# Altium footprint library ASM2464PD.PcbLib: 48 footprints (part 2 of 3)
Each footprint in its own frame and in the unit in brackets; x right, y up, seen from the top. Pads: shape width x height; smd on the part's side, far side on the other; paste and mask are expansions set on the pad; w line width, h text height; cw(c..) or ccw(c..) is an arc to the next point about the centre after c.
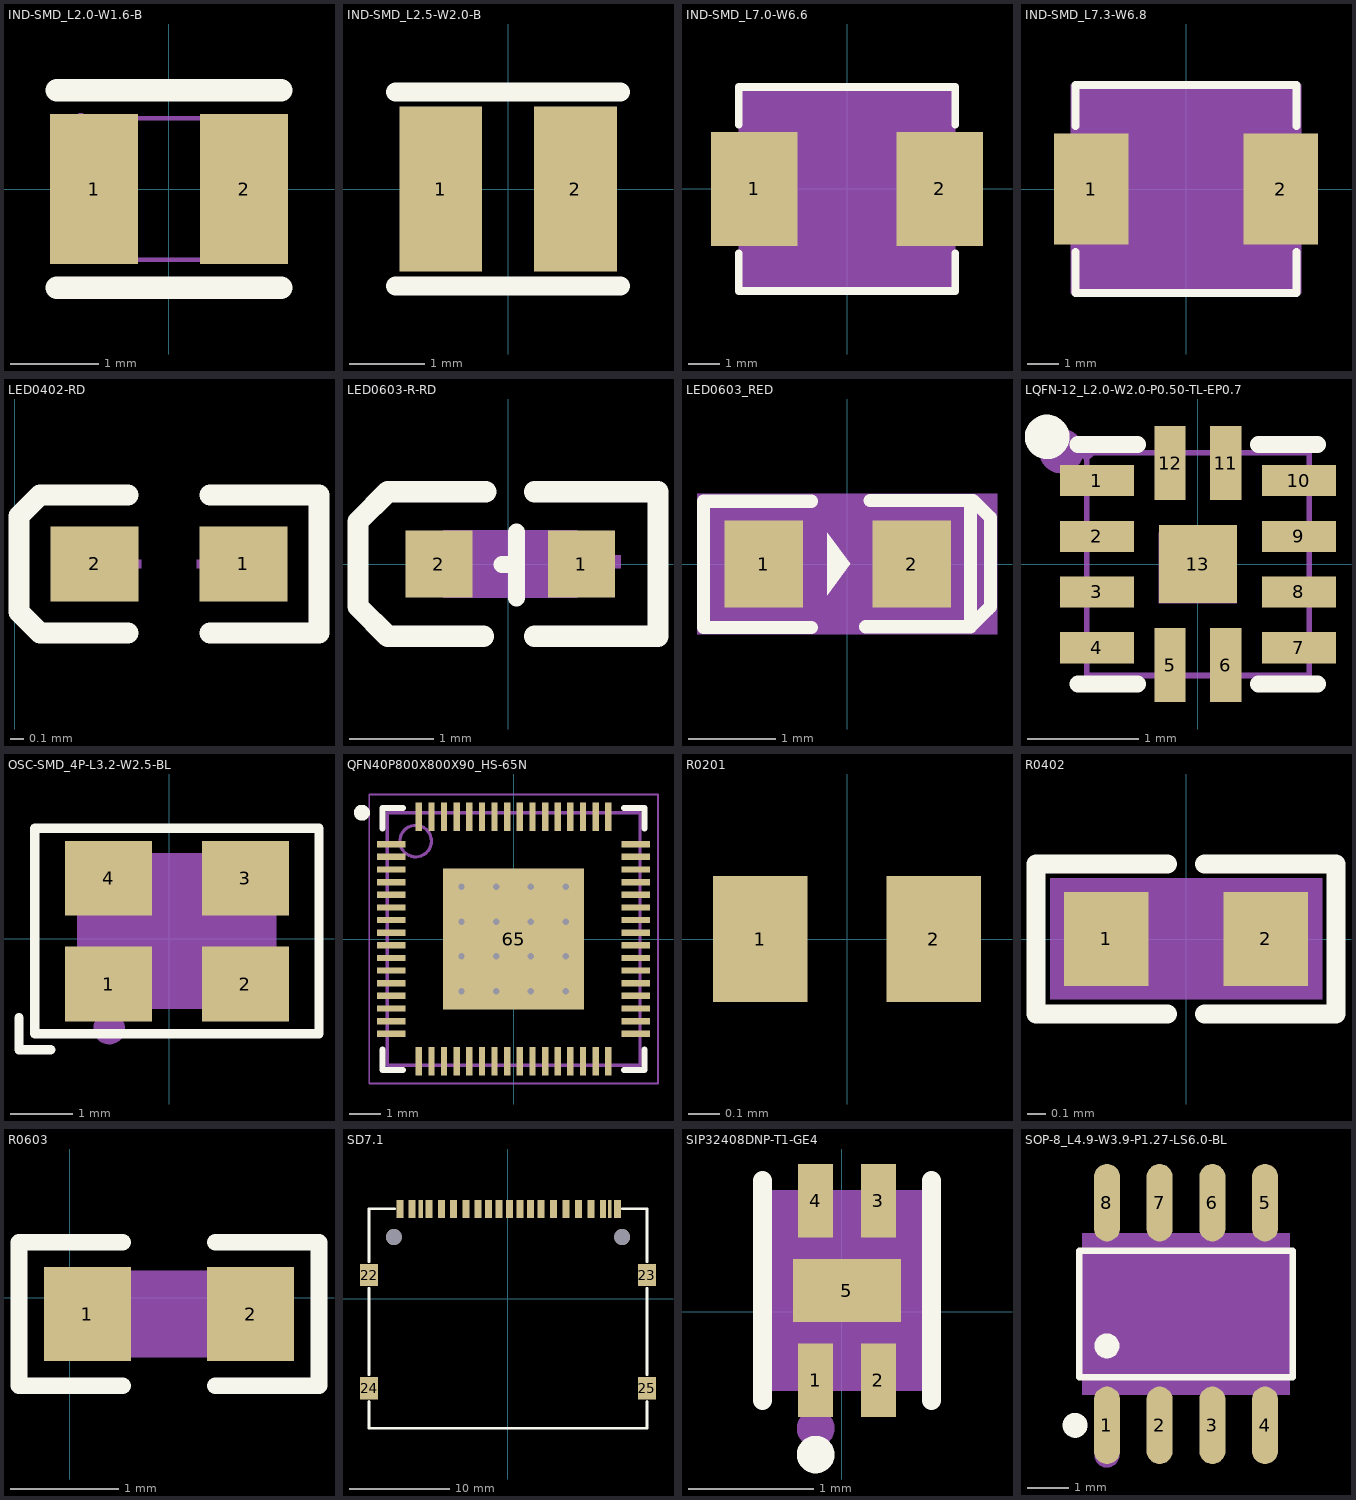
[diagram p1: the footprints below, top view; thin cyan lines are the x and y axes]

## IND-SMD_L2.0-W1.6-B [mm]
pads (2):
  rect 1x1.7 smd: 1(-0.85,0) 2(0.85,0)
Top Overlay:
  lines w0.254: -1.27,-1.12 1.27,-1.12 ; -1.27,1.12 1.27,1.12
Mechanical 15:
  region: -0.94,0.8 -0.94,0.825 -0.975,0.86 -1.025,0.86 -1.06,0.825 -1.06,0.8 -1.06,0.775 -1.025,0.74 -0.975,0.74 -0.94,0.775 -0.94,0.8
  region: 0.4,0.8 1,0.8 1,-0.8 0.4,-0.8
  region: -1,0.8 -0.4,0.8 -0.4,-0.8 -1,-0.8
  lines w0.051: -1,-0.8 -1,0.8 1,0.8 1,-0.8 -1,-0.8

## IND-SMD_L2.5-W2.0-B [mm]
pads (2):
  rect 1.1x2.2 smd: 1(-0.901,0) 2(0.899,0)
Top Overlay:
  lines w0.254: -1.5,-1.295 1.5,-1.295 ; -1.5,1.295 1.5,1.295
3D body "DFN160P250X100-2N.step": height 1, standoff 0, extent -1.25,-1 1.25,1

## IND-SMD_L7.0-W6.6 [mm]
pads (2):
  rect 2.8x3.7 smd: 1(-3,0) 2(3,0)
Top Overlay:
  lines w0.254: -3.5,-2.081 -3.5,-3.3 -3.49,-3.3 3.5,-3.3 3.5,-2.081 ; -3.5,2.081 -3.5,3.3 3.48,3.3 3.5,3.28 ; 3.5,2.081 3.5,3.3
Mechanical 4:
  region: -3.5,-3.3 -3.5,3.3 3.5,3.3 3.5,-3.3
Mechanical 5:
  region: 1.9,1.5 3.5,1.5 3.5,-1.5 1.9,-1.5
  region: -1.9,-1.5 -3.5,-1.5 -3.5,1.5 -1.9,1.5

## IND-SMD_L7.3-W6.8 [mm]
pads (2):
  rect 2.35x3.5 smd: 1(-3,0) 2(3,0)
Top Overlay:
  lines w0.254: -3.5,-2 -3.5,-3.3 3.5,-3.3 3.5,-2 ; -3.5,2 -3.5,3.3 3.5,3.3 3.5,2
Mechanical 4:
  region: -3.65,-3.3 -3.65,3.3 3.65,3.3 3.65,-3.3
Mechanical 5:
  region: 2.2,1.45 3.8,1.45 3.8,-1.45 2.2,-1.45
  region: -3.8,1.45 -2.2,1.45 -2.2,-1.45 -3.8,-1.45

## LED0402-RD [mm]
pads (2):
  rect 0.636x0.54 smd: 1(1.656,-6.759) 2(0.579,-6.759)
Top Overlay:
  lines w0.152: 0.821,-7.258 0.185,-7.258 0.032,-7.105 0.032,-6.413 0.185,-6.26 0.821,-6.26 ; 1.414,-7.258 2.202,-7.258 2.202,-6.26 1.414,-6.26
Top Paste:
  region: 0.919,-6.989 0.919,-6.529 0.879,-6.489 0.301,-6.489 0.261,-6.529 0.261,-6.989 0.301,-7.029 0.879,-7.029
  region: 1.315,-6.989 1.315,-6.529 1.355,-6.489 1.934,-6.489 1.974,-6.529 1.974,-6.989 1.934,-7.029 1.355,-7.029
Mechanical 15:
  region: 1.467,-6.959 1.467,-6.559 1.407,-6.559 1.407,-6.959
  region: 1.557,-6.789 1.557,-6.729 1.317,-6.729 1.317,-6.789
  region: 0.677,-6.789 0.677,-6.729 0.917,-6.729 0.917,-6.789
3D body "QBLP595.step": height 0.5, standoff 0, extent 0.639,-7.009 1.639,-6.509

## LED0603-R-RD [mm]
pads (2):
  rect 0.8x0.8 smd: 1(0.876,0) 2(-0.826,0)
Top Overlay:
  lines w0.203: -0.074,-0.008 0.102,-0.008 ; 0.102,-0.406 0.102,0.381
  lines w0.254: -0.292,-0.864 -1.435,-0.864 -1.791,-0.508 -1.791,0.508 -1.435,0.864 -0.267,0.864 ; 0.318,-0.864 1.791,-0.864 1.791,0.864 0.318,0.864
Mechanical 4:
  region: -0.775,0.4 0.825,0.4 0.825,-0.4 -0.775,-0.4
Mechanical 5:
  region: 0.825,0.4 0.825,-0.4 0.525,-0.4 0.525,0.4
  region: -0.775,-0.4 -0.775,0.4 -0.475,0.4 -0.475,-0.4
Mechanical 15:
  region: 0.686,0.102 1.346,0.102 1.346,-0.051 0.686,-0.051
  region: 0.961,-0.275 0.961,0.385 1.113,0.385 1.113,-0.275
  region: -1.168,0.05 -0.508,0.05 -0.508,-0.103 -1.168,-0.103

## LED0603_RED [mm]
pads (2):
  rect 0.9x1 smd: 1(-0.955,0) 2(0.745,0)
Top Overlay:
  region: -0.225,0.36 -0.225,-0.36 0.035,0
  lines w0.15: -0.405,-0.73 -1.645,-0.73 -1.645,0.72 -0.405,0.72 ; 0.215,-0.72 1.415,-0.72 ; 0.265,0.73 1.415,0.73 ; 1.415,-0.72 1.615,-0.52 1.645,-0.49 1.645,0.53 1.445,0.73 1.415,0.73 ; 1.415,-0.72 1.415,0.73
Mechanical 4:
  region: -1.72,0.805 1.72,0.805 1.72,-0.805 -1.72,-0.805
Mechanical 5:
  region: -0.505,0.5 -0.505,-0.5 -1.405,-0.5 -1.405,0.5
  region: 1.195,0.5 1.195,-0.5 0.295,-0.5 0.295,0.5

## LQFN-12_L2.0-W2.0-P0.50-TL-EP0.7 [mm]
pads (13):
  rect 0.665x0.28 smd paste-100 mask+0.051: 1(-0.908,0.75) 2(-0.908,0.25) 3(-0.908,-0.25) 4(-0.908,-0.75) 7(0.908,-0.75) 8(0.908,-0.25) 9(0.908,0.25) 10(0.908,0.75)
  rect 0.28x0.665 smd paste-100 mask+0.051: 5(-0.25,-0.908) 6(0.25,-0.908) 11(0.25,0.908) 12(-0.25,0.908)
  rect 0.7x0.7 smd paste-100 mask+0.051: 13(0,0)
Top Overlay:
  circle w0.2: c-1.354,1.143 r0.1
  lines w0.152: -1.076,-1.076 -0.542,-1.076 ; -1.076,1.076 -0.542,1.076 ; 0.542,-1.076 1.076,-1.076 ; 0.542,1.076 1.076,1.076
Top Paste:
  region: -0.39,0.575 -0.11,0.575 -0.11,1.24 -0.39,1.24
  region: 0.11,0.575 0.39,0.575 0.39,1.24 0.11,1.24
  region: 0.575,0.61 1.24,0.61 1.24,0.89 0.575,0.89
  region: 0.575,0.11 1.24,0.11 1.24,0.39 0.575,0.39
  region: 0.575,-0.39 1.24,-0.39 1.24,-0.11 0.575,-0.11
  region: 0.575,-0.89 1.24,-0.89 1.24,-0.61 0.575,-0.61
  region: 0.11,-1.24 0.39,-1.24 0.39,-0.575 0.11,-0.575
  region: -0.39,-1.24 -0.11,-1.24 -0.11,-0.575 -0.39,-0.575
  region: -1.24,-0.89 -0.575,-0.89 -0.575,-0.61 -1.24,-0.61
  region: -1.24,-0.39 -0.575,-0.39 -0.575,-0.11 -1.24,-0.11
  region: -1.24,0.11 -0.575,0.11 -0.575,0.39 -1.24,0.39
  region: -1.24,0.61 -0.575,0.61 -0.575,0.89 -1.24,0.89
  region: -0.25,-0.25 -0.25,0.25 0.25,0.25 0.25,-0.25
Mechanical 6:
  circle w0.2: c-1.227,1.016 r0.1
Mechanical 15:
  region: -0.94,1 -0.941,1.024 -0.976,1.058 -1.024,1.058 -1.059,1.024 -1.06,1 -1.059,0.976 -1.024,0.942 -0.976,0.942 -0.941,0.976 -0.94,1
  region: -0.28,0.35 0.35,0.35 0.35,-0.35 -0.35,-0.35 -0.35,0.28
  region: -0.375,1 -0.125,1 -0.125,0.6 -0.375,0.6
  region: 0.125,1 0.375,1 0.375,0.6 0.125,0.6
  region: 1,0.625 0.6,0.625 0.6,0.875 1,0.875
  region: 1,0.125 0.6,0.125 0.6,0.375 1,0.375
  region: 1,-0.375 0.6,-0.375 0.6,-0.125 1,-0.125
  region: 1,-0.875 0.6,-0.875 0.6,-0.625 1,-0.625
  region: 0.125,-1 0.375,-1 0.375,-0.6 0.125,-0.6
  region: -0.375,-1 -0.125,-1 -0.125,-0.6 -0.375,-0.6
  region: -1,-0.875 -0.6,-0.875 -0.6,-0.625 -1,-0.625
  region: -1,-0.375 -0.6,-0.375 -0.6,-0.125 -1,-0.125
  region: -1,0.125 -0.6,0.125 -0.6,0.375 -1,0.375
  region: -1,0.625 -0.6,0.625 -0.6,0.875 -1,0.875
  lines w0.051: -1,-1 1,-1 1,1 -1,1 -1,-1

## OSC-SMD_4P-L3.2-W2.5-BL [mm]
pads (4):
  rect 1.4x1.2 smd: 1(-0.973,-0.724) 2(1.227,-0.724) 3(1.227,0.978) 4(-0.973,0.978)
Top Overlay:
  lines w0.152: -2.413,-1.27 -2.413,-1.778 -1.905,-1.778 ; -2.159,-1.524 -2.159,1.778 2.413,1.778 2.413,0.127 2.413,-1.524 -2.159,-1.524
Mechanical 4:
  region: -1.473,-1.123 -1.473,1.377 1.727,1.377 1.727,-1.123
Mechanical 5:
  region: 0.727,-0.223 1.627,-0.223 1.627,-1.023 0.727,-1.023
  region: -1.373,-0.223 -0.473,-0.223 -0.473,-1.023 -1.373,-1.023
  region: -1.373,1.277 -0.473,1.277 -0.473,0.477 -1.373,0.477
  region: 0.727,1.277 1.627,1.277 1.627,0.477 0.727,0.477
Mechanical 15:
  circle w0.254: c-0.961,-1.44 r0.127
  region: -1.611,-0.409 -1.575,-0.409 -1.575,-0.481 -1.611,-0.481
  region: -1.575,-0.409 -1.539,-0.409 -1.539,-0.481 -1.575,-0.481
  region: -1.539,-0.373 -1.503,-0.373 -1.503,-0.481 -1.539,-0.481
  region: -1.503,-0.337 -1.467,-0.337 -1.467,-0.445 -1.503,-0.445
  region: -1.467,-0.337 -1.431,-0.337 -1.431,-0.877 -1.467,-0.877
  region: -1.431,-0.301 -1.395,-0.301 -1.395,-0.877 -1.431,-0.877
  region: -1.395,-0.301 -1.359,-0.301 -1.359,-0.877 -1.395,-0.877
  region: -1.359,-0.301 -1.323,-0.301 -1.323,-0.877 -1.359,-0.877

## QFN40P800X800X90_HS-65N [mm] "QFN, 64-Leads, Body 8.00x8.00mm, Pitch 0.40mm, Thermal Pad 4.46x4.46mm, IPC Medium Density"
height 0.9
pads (65):
  rect 0.9x0.2 smd: 1(-3.875,3) 2(-3.875,2.6) 3(-3.875,2.2) 4(-3.875,1.8) 5(-3.875,1.4) 6(-3.875,1) 7(-3.875,0.6) 8(-3.875,0.2) 9(-3.875,-0.2) 10(-3.875,-0.6) 11(-3.875,-1) 12(-3.875,-1.4) 13(-3.875,-1.8) 14(-3.875,-2.2) 15(-3.875,-2.6) 16(-3.875,-3) 33(3.875,-3) 34(3.875,-2.6) 35(3.875,-2.2) 36(3.875,-1.8) 37(3.875,-1.4) 38(3.875,-1) 39(3.875,-0.6) 40(3.875,-0.2) 41(3.875,0.2) 42(3.875,0.6) 43(3.875,1) 44(3.875,1.4) 45(3.875,1.8) 46(3.875,2.2) 47(3.875,2.6) 48(3.875,3)
  rect 0.2x0.9 smd: 17(-3,-3.875) 18(-2.6,-3.875) 19(-2.2,-3.875) 20(-1.8,-3.875) 21(-1.4,-3.875) 22(-1,-3.875) 23(-0.6,-3.875) 24(-0.2,-3.875) 25(0.2,-3.875) 26(0.6,-3.875) 27(1,-3.875) 28(1.4,-3.875) 29(1.8,-3.875) 30(2.2,-3.875) 31(2.6,-3.875) 32(3,-3.875) 49(3,3.875) 50(2.6,3.875) 51(2.2,3.875) 52(1.8,3.875) 53(1.4,3.875) 54(1,3.875) 55(0.6,3.875) 56(0.2,3.875) 57(-0.2,3.875) 58(-0.6,3.875) 59(-1,3.875) 60(-1.4,3.875) 61(-1.8,3.875) 62(-2.2,3.875) 63(-2.6,3.875) 64(-3,3.875)
  rect 4.46x4.46 smd: 65(0,0)
via 1.65,-1.65 diameter 0.5 hole 0.2
via 0.55,-1.65 diameter 0.5 hole 0.2
via -0.55,-1.65 diameter 0.5 hole 0.2
via -1.65,-1.65 diameter 0.5 hole 0.2
via 1.65,-0.55 diameter 0.5 hole 0.2
via 0.55,-0.55 diameter 0.5 hole 0.2
via -0.55,-0.55 diameter 0.5 hole 0.2
via -1.65,-0.55 diameter 0.5 hole 0.2
via 1.65,0.55 diameter 0.5 hole 0.2
via 0.55,0.55 diameter 0.5 hole 0.2
via -0.55,0.55 diameter 0.5 hole 0.2
via -1.65,0.55 diameter 0.5 hole 0.2
via 1.65,1.65 diameter 0.5 hole 0.2
via 0.55,1.65 diameter 0.5 hole 0.2
via -0.55,1.65 diameter 0.5 hole 0.2
via -1.65,1.65 diameter 0.5 hole 0.2
Top Overlay:
  circle w0.25: c-4.8,4 r0.125
  lines w0.2: -4.15,-3.5 -4.15,-4.15 -3.5,-4.15 ; -4.15,3.5 -4.15,4.15 -3.5,4.15 ; 3.5,-4.15 4.15,-4.15 4.15,-3.5 ; 3.5,4.15 4.15,4.15 4.15,3.5
Mechanical 13:
  circle w0.1: c-3.1,3.1 r0.5
  lines w0.1: -4,-4 4,-4 4,4 -4,4 -4,-4
Mechanical 15:
  lines w0.05: -4.575,-4.575 4.575,-4.575 4.575,4.575 -4.575,4.575 -4.575,-4.575
  lines w0.1: -0.5,0 0.5,0 ; 0,-0.5 0,0.5
3D body "QFN40P800X800X90_HS-65N.step": height 0.9, standoff 0, extent -4.001,-4.001 4.001,4.001

## R0201 [mm]
pads (2):
  rect 0.3x0.4 smd: 1(-0.275,0) 2(0.275,0)
3D body "RESC0603X02N.step": height 0.23, standoff 0, extent -0.3,-0.15 0.3,0.15

## R0402 [mm]
pads (2):
  rect 0.45x0.5 smd mask+0.076: 1(-0.425,0) 2(0.425,0)
Top Overlay:
  lines w0.102: -0.1,-0.4 -0.8,-0.4 -0.8,0.4 -0.1,0.4 ; 0.1,-0.4 0.8,-0.4 0.8,0.4 0.1,0.4
Mechanical 7:
  pour cut-out: -0.724,0.323 0.725,0.324 0.725,-0.321 -0.724,-0.321
3D body: height 0.5, standoff 0, extent -0.5,-0.25 -0.3,0.25
3D body: height 0.5, standoff 0, extent -0.3,-0.25 0.3,0.25
3D body: height 0.5, standoff 0, extent 0.3,-0.25 0.5,0.25

## R0603 [mm]
pads (2):
  rect 0.806x0.864 smd: 1(0.162,-0.149) 2(1.668,-0.149)
Top Overlay:
  lines w0.152: 0.489,-0.81 -0.47,-0.81 -0.47,0.512 0.489,0.512 ; 1.341,-0.81 2.3,-0.81 2.3,0.512 1.341,0.512
Top Paste:
  region: 2.11,0.301 1.31,0.301 1.26,0.251 1.26,0.023 1.63,0.023 1.63,-0.307 1.26,-0.307 1.26,-0.549 1.31,-0.599 2.11,-0.599 2.16,-0.549 2.16,0.251
  region: 0.56,0.251 0.56,0.023 0.18,0.023 0.18,-0.307 0.56,-0.307 0.56,-0.549 0.51,-0.599 -0.28,-0.599 -0.33,-0.549 -0.33,0.251 -0.28,0.301 0.51,0.301
Mechanical 4:
  region: 0.115,-0.549 0.115,0.251 1.715,0.251 1.715,-0.549
Mechanical 5:
  region: 0.115,-0.549 0.115,0.251 0.415,0.251 0.415,-0.549
  region: 1.715,-0.549 1.715,0.251 1.415,0.251 1.415,-0.549

## SD7.1 [mm]
pads (27):
  rect 0.7x1.8 smd: 1(10.91,8.95) 4(8.3,8.95) 5(7.05,8.95) 6(5.8,8.95) 7(4.55,8.95) 8(3.3,8.95) 9(2.25,8.95) 10(1.2,8.95) 11(0.15,8.95) 12(-0.9,8.95) 13(-1.95,8.95) 14(-3,8.95) 15(-4.2,8.95) 16(-5.45,8.95) 17(-6.65,8.95) 18(-7.88,8.95) 20(-9.58,8.95) 21(-10.78,8.95)
  rect 0.35x1.8 smd: 2(10.18,8.95)
  rect 0.61x1.8 smd: 3(9.5,8.95)
  rect 0.48x1.8 smd: 19(-8.72,8.95)
  rect 1.8x2.2 smd: 22(-13.875,2.35) 23(13.875,2.35) 24(-13.875,-8.95) 25(13.875,-8.95)
  round 1.6 hole 1.6 unplated: ""(-11.4,6.15) ""(11.4,6.15)
Top Overlay:
  lines w0.254: -13.875,-10.272 -13.875,-12.922 13.875,-12.922 13.875,-10.272 ; -13.875,-7.62 -13.875,1.016 ; -13.875,3.683 -13.875,8.95 -11.303,8.95 ; 11.43,8.95 13.875,8.95 13.875,3.683 ; 13.875,-7.605 13.875,1.031

## SIP32408DNP-T1-GE4 [mm]
pads (5):
  rect 0.28x0.585 smd: 1(-0.207,-0.549) 2(0.293,-0.549) 3(0.293,0.886) 4(-0.207,0.886)
  rect 0.86x0.5 smd: 5(0.043,0.169)
Top Overlay:
  circle w0.15: c-0.207,-1.141 r0.075
  lines w0.152: -0.634,-0.707 -0.634,1.045 ; 0.719,-0.707 0.719,1.045
Mechanical 4:
  region: -0.557,-0.631 -0.557,0.969 0.643,0.969 0.643,-0.631
Mechanical 5:
  region: -0.387,-0.031 -0.387,0.419 0.473,0.419 0.473,-0.081 -0.337,-0.081
  region: -0.332,0.969 -0.332,0.619 -0.082,0.619 -0.082,0.969
  region: 0.168,0.969 0.168,0.619 0.418,0.619 0.418,0.969
  region: 0.168,-0.631 0.168,-0.281 0.418,-0.281 0.418,-0.631
  region: -0.332,-0.631 -0.332,-0.281 -0.082,-0.281 -0.082,-0.631
Mechanical 15:
  circle w0.15: c-0.207,-0.931 r0.075
3D body "TDFN_8DNP-T1-GE4_VIS.step": height 0.61, standoff 0, extent -0.579,-0.657 0.665,0.995

## SOP-8_L4.9-W3.9-P1.27-LS6.0-BL [mm]
pads (8):
  oval 0.63x1.865 smd: 1(420.503,-434.048) 2(421.773,-434.048) 3(423.043,-434.048) 4(424.313,-434.048) 5(424.313,-428.683) 6(423.043,-428.683) 7(421.773,-428.683) 8(420.503,-428.683)
Top Overlay:
  circle w0.3: c420.503,-432.135 r0.15
  circle w0.3: c419.735,-434.048 r0.15
  lines w0.152: 419.832,-432.887 419.832,-429.844 424.984,-429.844 424.984,-432.887 419.832,-432.887
Mechanical 4:
  region: 419.908,-433.316 419.908,-429.415 424.908,-429.415 424.908,-433.316
Mechanical 5:
  pour cut-out: 424.103,-429.426 424.103,-429.191 424.523,-429.191 424.523,-429.426
  region: 424.103,-429.201 424.103,-428.366 424.523,-428.366 424.523,-429.201
  pour cut-out: 422.833,-429.426 422.833,-429.191 423.253,-429.191 423.253,-429.426
  region: 422.833,-429.201 422.833,-428.366 423.253,-428.366 423.253,-429.201
  pour cut-out: 421.563,-429.426 421.563,-429.191 421.983,-429.191 421.983,-429.426
  region: 421.563,-429.201 421.563,-428.366 421.983,-428.366 421.983,-429.201
  pour cut-out: 420.293,-429.426 420.293,-429.191 420.713,-429.191 420.713,-429.426
  region: 420.293,-429.201 420.293,-428.366 420.713,-428.366 420.713,-429.201
  pour cut-out: 424.103,-433.541 424.103,-433.306 424.523,-433.306 424.523,-433.541
  region: 424.103,-434.365 424.103,-433.53 424.523,-433.53 424.523,-434.365
  pour cut-out: 422.833,-433.541 422.833,-433.306 423.253,-433.306 423.253,-433.541
  region: 422.833,-434.365 422.833,-433.53 423.253,-433.53 423.253,-434.365
  pour cut-out: 421.563,-433.541 421.563,-433.306 421.983,-433.306 421.983,-433.541
  region: 421.563,-434.365 421.563,-433.53 421.983,-433.53 421.983,-434.365
  pour cut-out: 420.293,-433.541 420.293,-433.306 420.713,-433.306 420.713,-433.541
  region: 420.293,-434.365 420.293,-433.53 420.713,-433.53 420.713,-434.365
Mechanical 15:
  circle w0.3: c420.503,-434.766 r0.15
3D body "SOP127P600X175-8N.step": height 1.75, standoff 0, extent 419.908,-434.419 424.908,-428.419